# Altium footprint library VOF-6B.PcbLib: 1 footprints
Each footprint in its own frame and in the unit in brackets; x right, y up, seen from the top. Pads: shape width x height; smd on the part's side, far side on the other; paste and mask are expansions set on the pad; w line width, h text height; cw(c..) or ccw(c..) is an arc to the next point about the centre after c.
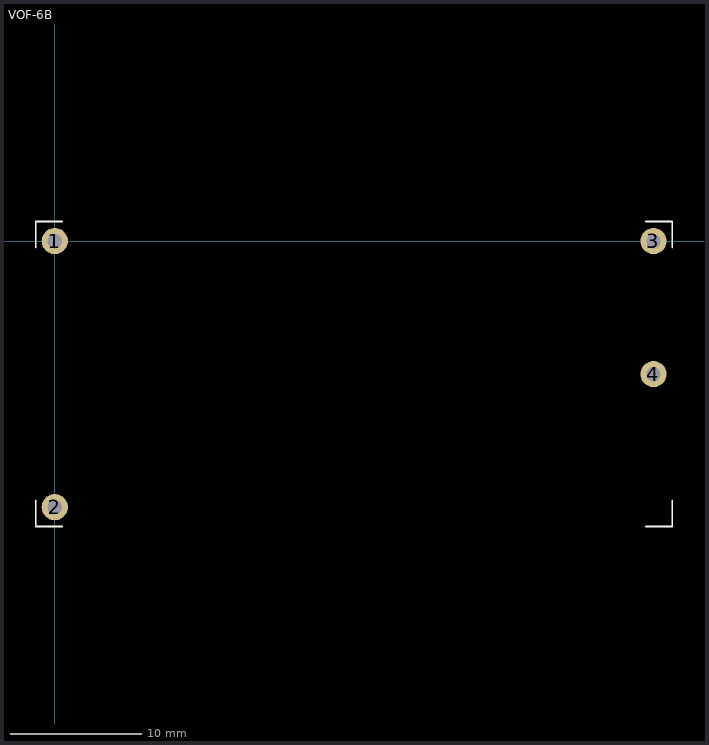
[diagram p0: the footprint, top view; thin cyan lines are the x and y axes]

## VOF-6B [mm] "CUI AC/DC Converter Module"
pads (4):
  round 2 hole 1.1: 1(0,0) 2(0,-20.32) 3(45.72,0) 4(45.72,-10.16)
Top Overlay:
  lines w0.127: -1.45,-19.8 -1.45,-21.8 0.55,-21.8 ; -1.45,-0.5 -1.45,1.5 0.55,1.5 ; 45.15,-21.8 47.15,-21.8 47.15,-19.8 ; 45.15,1.5 47.15,1.5 47.15,-0.5
3D body "CUI_vof-6b-s5.SLDPRT": height 15.76, standoff -3.74, extent -1.45,-21.8 47.148,1.5